# Altium schematic symbol library Q_NFET_3pin.Schlib: 1 symbol
Pins are listed as number, name and electrical type; pins without a type are passive.

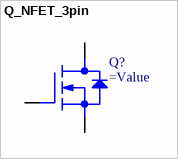
[diagram p0: symbol Q_NFET_3pin]

## Q_NFET_3pin
designator Q?
NFET
pins: DRAIN, GATE, SOURCE